# Altium schematic symbol library 691 317 710 0xx.SchLib: 6 symbols
Pins are listed as number, name and electrical type; pins without a type are passive.

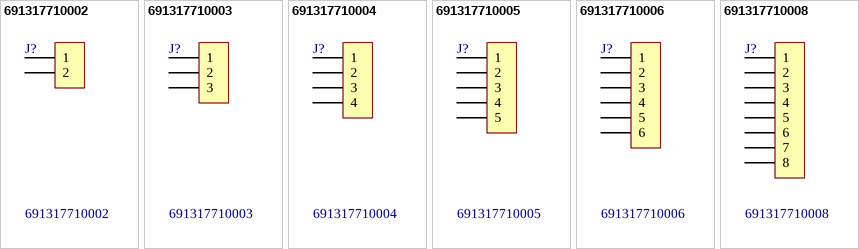
[diagram p0: symbols 691317710002 to 691317710008]

## 691317710002
designator J?
WR-TBL Terminal block - serie 3177 - 5.00mm; Manufacturer: Würth Elektronik eiSos GmbH; ComponentLink1 Description: Manufacturer; ComponentLink2 Description: Datasheet; NoPins: 02; Created Date: 6 January 2014; partNo: 691317710002; ComponentLink1URL: http://www.we-online.com; ComponentLink2URL: http://katalog.we-online.de/em/datasheet/6913177100xx.pdf; Created by: Karrer Zheng
footprint 691317710002
pins: 1, 2

## 691317710003
designator J?
WR-TBL Terminal block - serie 3177 - 5.00mm; Manufacturer: Würth Elektronik eiSos GmbH; ComponentLink1 Description: Manufacturer; ComponentLink2 Description: Datasheet; NoPins: 03; Created Date: 6 January 2014; partNo: 691317710003; ComponentLink1URL: http://www.we-online.com; ComponentLink2URL: http://katalog.we-online.de/em/datasheet/6913177100xx.pdf; Created by: Karrer Zheng
footprint 691317710003
pins: 1, 2, 3

## 691317710004
designator J?
WR-TBL Terminal block - serie 3177 - 5.00mm; Manufacturer: Würth Elektronik eiSos GmbH; ComponentLink1 Description: Manufacturer; ComponentLink2 Description: Datasheet; NoPins: 04; Created Date: 6 January 2014; partNo: 691317710004; ComponentLink1URL: http://www.we-online.com; ComponentLink2URL: http://katalog.we-online.de/em/datasheet/6913177100xx.pdf; Created by: Karrer Zheng
footprint 691317710004
pins: 1, 2, 3, 4

## 691317710005
designator J?
WR-TBL Terminal block - serie 3177 - 5.00mm; Manufacturer: Würth Elektronik eiSos GmbH; ComponentLink1 Description: Manufacturer; ComponentLink2 Description: Datasheet; NoPins: 05; Created Date: 6 January 2014; partNo: 691317710005; ComponentLink1URL: http://www.we-online.com; ComponentLink2URL: http://katalog.we-online.de/em/datasheet/6913177100xx.pdf; Created by: Karrer Zheng
footprint 691317710005
pins: 1, 2, 3, 4, 5

## 691317710006
designator J?
WR-TBL Terminal block - serie 3177 - 5.00mm; Manufacturer: Würth Elektronik eiSos GmbH; ComponentLink1 Description: Manufacturer; ComponentLink2 Description: Datasheet; NoPins: 06; Created Date: 6 January 2014; partNo: 691317710006; ComponentLink1URL: http://www.we-online.com; ComponentLink2URL: http://katalog.we-online.de/em/datasheet/6913177100xx.pdf; Created by: Karrer Zheng
footprint 691317710006
pins: 1, 2, 3, 4, 5, 6

## 691317710008
designator J?
WR-TBL Terminal block - serie 3177 - 5.00mm; Manufacturer: Würth Elektronik eiSos GmbH; ComponentLink1 Description: Manufacturer; ComponentLink2 Description: Datasheet; NoPins: 08; Created Date: 6 January 2014; partNo: 691317710008; ComponentLink1URL: http://www.we-online.com; ComponentLink2URL: http://katalog.we-online.de/em/datasheet/6913177100xx.pdf; Created by: Karrer Zheng
footprint 691317710008
pins: 1, 2, 3, 4, 5, 6, 7, 8